# Altium schematic symbol library Loggerhead.SchLib: 42 symbols
Pins are listed as number, name and electrical type; pins without a type are passive.

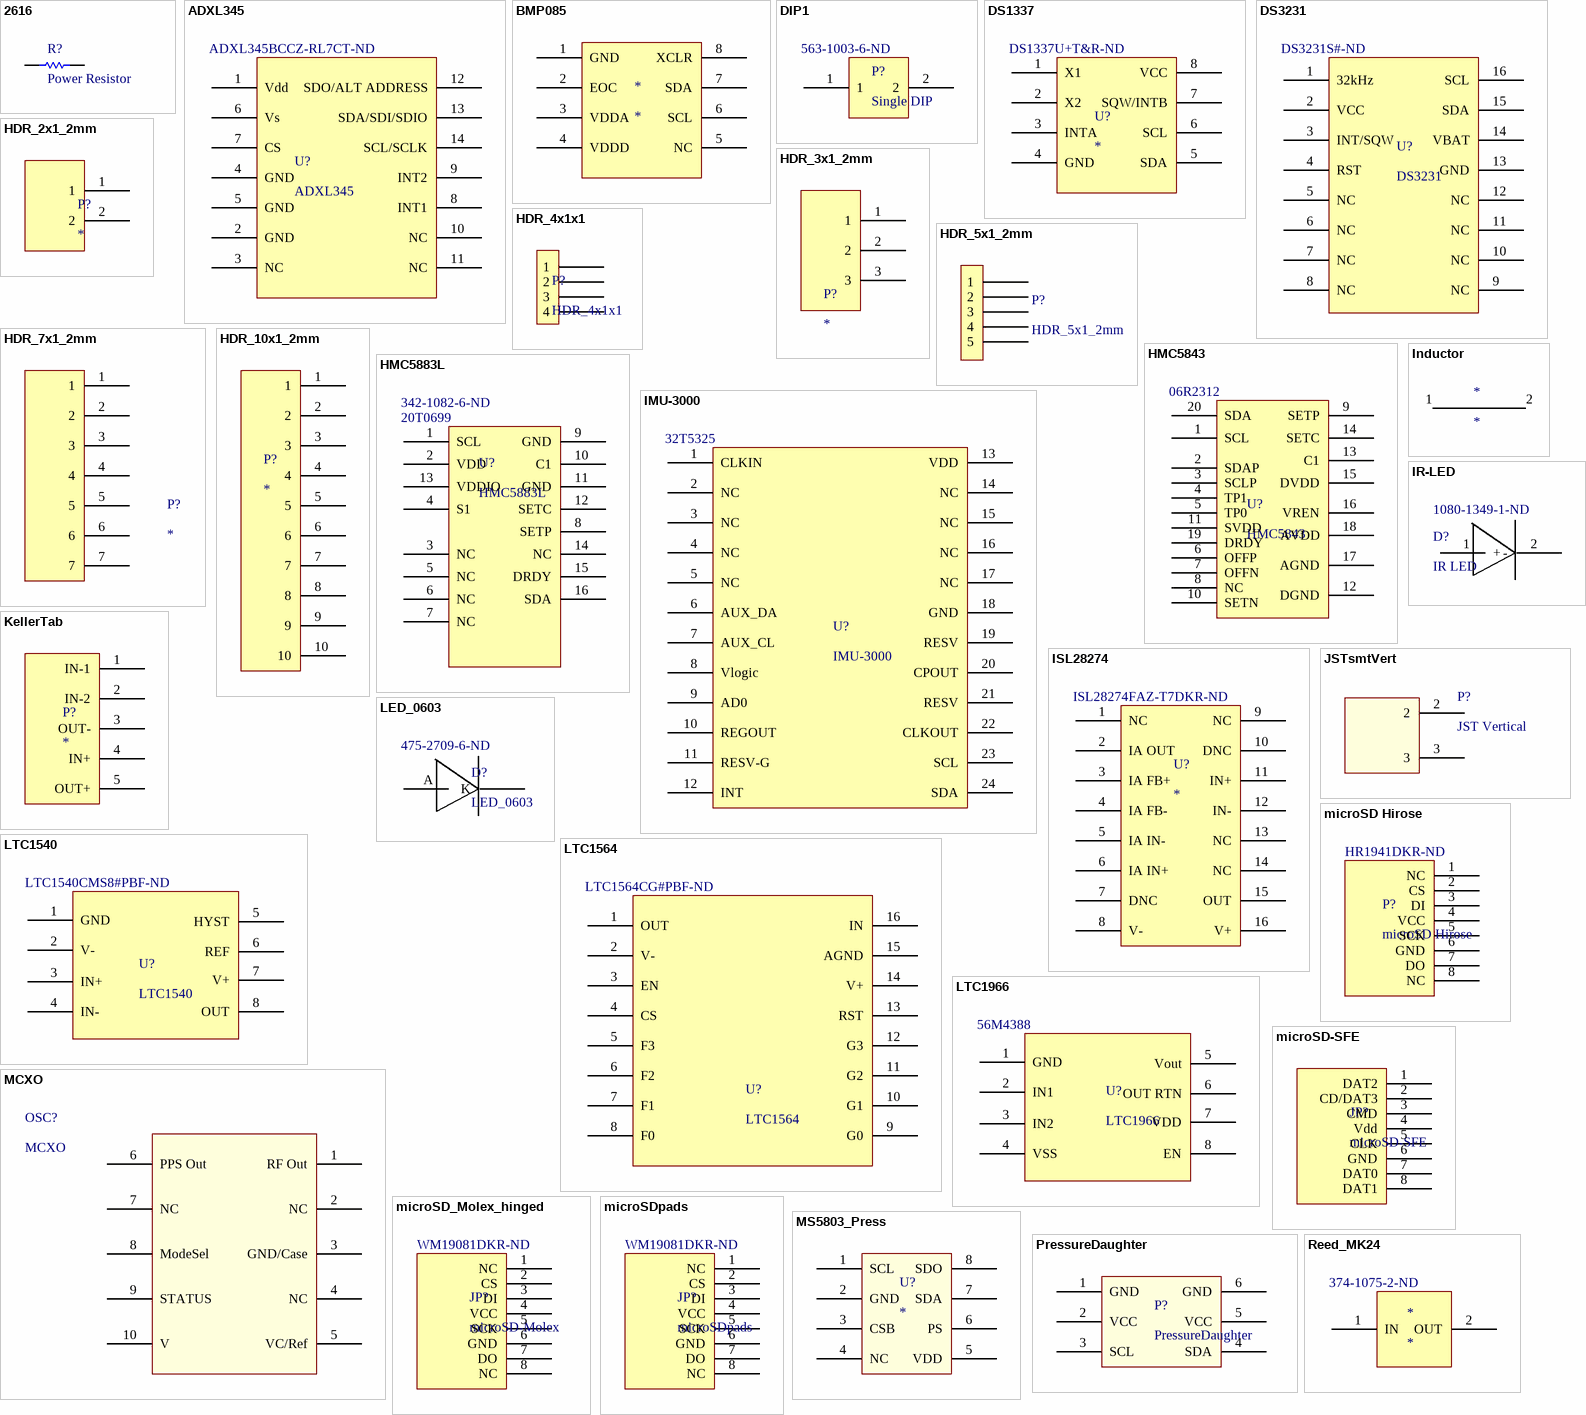
[diagram p0: symbols 2616 to Reed_MK24]

## 2616
designator R?, comment Power Resistor
footprint 2616
pins: 1, 2

## ADXL345
designator U?  Supplier Part Number 1: ADXL345BCCZ-RL7CT-ND
Supplier 1: Digi-Key
footprint ADXL345 (Digital Accelerometer)
pins: 1 Vdd (power), 2 GND, 3 NC, 4 GND, 5 GND, 6 Vs, 7 CS, 8 INT1, 9 INT2, 10 NC, 11 NC, 12 SDO/ALT ADDRESS, 13 SDA/SDI/SDIO, 14 SCL/SCLK

## BMP085
designator *
pins: 1 GND, 2 EOC, 3 VDDA, 4 VDDD, 5 NC, 6 SCL, 7 SDA, 8 XCLR (power)

## DIP1
designator P?, comment Single DIP  Supplier Part Number 1: 563-1003-6-ND
Supplier 1: Digi-Key
footprint DIP1
pins: 1, 2

## DS1337
designator U?  Supplier Part Number 1: DS1337U+T&R-ND
Supplier 1: Digi-Key
footprint uSOP8
pins: 1 X1, 2 X2, 3 INTA, 4 GND, 5 SDA, 6 SCL, 7 SQW/INTB, 8 VCC (power)

## DS3231
designator U?  Supplier Part Number 1: DS3231S#-ND
Supplier 1: Digi-Key
footprint NSO16_L (16-Pin Small Outline Integrated Circuit 1.27 mm Pitch, IPC High Density)
pins: 1 32kHz, 2 VCC (power), 3 INT/SQW, 4 RST, 5 NC, 6 NC, 7 NC, 8 NC, 9 NC, 10 NC, 11 NC, 12 NC, 13 GND, 14 VBAT (power), 15 SDA, 16 SCL

## HDR_2x1_2mm
designator P?
footprint HDR_2x1_2mm
pins: 1, 2

## HDR_3x1_2mm
designator P?
footprint HDR_3x1_2mm
pins: 1, 2, 3

## HDR_4x1x1
designator P?
footprint HDR4x1x1mm (Header with 1 mm centers)
pins: 1, 2, 3, 4

## HDR_5x1_2mm
designator P?
footprint Hdr_5x1_2mm
pins: 1, 2, 3, 4, 5

## HDR_7x1_2mm
designator P?
footprint HDR_7x1_2mm
pins: 1, 2, 3, 4, 5, 6, 7

## HDR_10x1_2mm
designator P?
footprint HDR_10x1_2mm
pins: 1, 2, 3, 4, 5, 6, 7, 8, 9, 10

## HMC5843
designator U?  Supplier Part Number 1: 06R2312
Supplier 1: Newark
footprint HMC5843 (Compass)
pins: 1 SCL, 2 SDAP, 3 SCLP, 4 TP1, 5 TP0, 6 OFFP, 7 OFFN, 8 NC, 9 SETP, 10 SETN, 11 SVDD, 12 DGND, 13 C1, 14 SETC, 15 DVDD, 16 VREN, 17 AGND, 18 AVDD (power), 19 DRDY, 20 SDA

## HMC5883L
designator U?  Supplier Part Number 1: 20T0699  Supplier Part Number 2: 342-1082-6-ND
Supplier 1: Newark; Supplier 2: Digi-Key
footprint HMC5883L (Compass 3D Honeywell)
pins: 1 SCL, 2 VDD (power), 3 NC, 4 S1, 5 NC, 6 NC, 7 NC, 8 SETP, 9 GND, 10 C1, 11 GND, 12 SETC, 13 VDDIO, 14 NC, 15 DRDY, 16 SDA

## IMU-3000
designator U?  Supplier Part Number 1: 32T5325
Supplier 1: Newark
footprint IMU-3000 (Invensense Gyro)
pins: 1 CLKIN, 2 NC, 3 NC, 4 NC, 5 NC, 6 AUX_DA, 7 AUX_CL, 8 Vlogic, 9 AD0, 10 REGOUT, 11 RESV-G, 12 INT, 13 VDD (power), 14 NC, 15 NC, 16 NC, 17 NC, 18 GND, 19 RESV, 20 CPOUT, 21 RESV, 22 CLKOUT, 23 SCL, 24 SDA

## Inductor
designator *
footprint Inductor
pins: 1, 2

## IR-LED
designator D?, comment IR LED  Supplier Part Number 1: 1080-1349-1-ND
Supplier 1: Digi-Key
footprint IR-LED
pins: 1 +, 2 - "Cathode (gnd)"

## ISL28274
designator U?  Supplier Part Number 1: ISL28274FAZ-T7DKR-ND
Supplier 1: Digi-Key
footprint QSOP16_Intersil
pins: 1 NC, 2 IA OUT, 3 IA FB+, 4 IA FB-, 5 IA IN-, 6 IA IN+, 7 DNC, 8 V-, 9 NC, 10 DNC, 11 IN+, 12 IN-, 13 NC, 14 NC, 15 OUT, 16 V+ (power)

## JSTsmtVert
designator P?, comment JST Vertical
footprint JST_SMT (JST surface mount power connector)
pins: 2, 3

## KellerTab
designator P?
footprint KellerTab1 (Pressure sensor)
pins: 1 IN-1, 2 IN-2, 3 OUT-, 4 IN+, 5 OUT+

## LED_0603
designator D?  Supplier Part Number 1: 475-2709-6-ND
Supplier 1: Digi-Key
footprint Diode0603
pins: A, K "Cathode (gnd)"

## LTC1540
designator U?  Supplier Part Number 1: LTC1540CMS8#PBF-ND
Supplier 1: Digi-Key
footprint MS8 (Shrink Small Outline; 8 Leads; Body Width 3 mm; Pitch 0.65 mm)
pins: 1 GND, 2 V-, 3 IN+, 4 IN-, 5 HYST, 6 REF, 7 V+ (power), 8 OUT

## LTC1564
designator U?  Supplier Part Number 1: LTC1564CG#PBF-ND
Supplier 1: Digi-Key
footprint SSOP16
pins: 1 OUT, 2 V-, 3 EN, 4 CS, 5 F3, 6 F2, 7 F1, 8 F0, 9 G0, 10 G1, 11 G2, 12 G3, 13 RST, 14 V+, 15 AGND, 16 IN

## LTC1966
designator U?  Supplier Part Number 1: 56M4388
Supplier 1: Newark
footprint MS8 (Shrink Small Outline; 8 Leads; Body Width 3 mm; Pitch 0.65 mm)
pins: 1 GND, 2 IN1, 3 IN2, 4 VSS, 5 Vout, 6 OUT RTN, 7 VDD (power), 8 EN

## MCXO
designator OSC?
MCXO oscillator
footprint MCXO
pins: 1 RF Out, 2 NC, 3 GND/Case, 4 NC, 5 VC/Ref, 6 PPS Out, 7 NC, 8 ModeSel, 9 STATUS, 10 V

## microSD Hirose
designator P?  Supplier Part Number 1: HR1941DKR-ND
Supplier 1: Digi-Key
footprint DM3D microSD (MICROSD_HIROSE Push-Pull)
pins: 1 NC, 2 CS, 3 DI, 4 VCC, 5 SCK, 6 GND, 7 DO, 8 NC

## microSD-SFE
designator JP?
footprint microSD Socket
pins: 1 DAT2, 2 CD/DAT3, 3 CMD, 4 Vdd, 5 CLK, 6 GND, 7 DAT0, 8 DAT1

## microSD_Molex_hinged
designator JP?, comment microSD-Molex  Supplier Part Number 1: WM19081DKR-ND
Supplier 1: Digi-Key
footprint microSD_Molex_hinged
pins: 1 NC, 2 CS, 3 DI, 4 VCC, 5 SCK, 6 GND, 7 DO, 8 NC

## microSDpads
designator JP?  Supplier Part Number 1: WM19081DKR-ND
Supplier 1: Digi-Key
footprint microSDtabs
pins: 1 NC, 2 CS, 3 DI, 4 VCC, 5 SCK, 6 GND, 7 DO, 8 NC

## MS5803_Press
designator U?
footprint MS5803_Press
pins: 1 SCL, 2 GND, 3 CSB, 4 NC, 5 VDD (power), 6 PS, 7 SDA, 8 SDO

## PressureDaughter
designator P?
footprint PressureDaughter
pins: 1 GND, 2 VCC, 3 SCL, 4 SDA, 5 VCC, 6 GND

## Reed_MK24
designator *  Supplier Part Number 1: 374-1075-2-ND
Supplier 1: Digi-Key
footprint Reed MK24-B-3 (Meder Reed Switch Surface Mount)
pins: 1 IN, 2 OUT

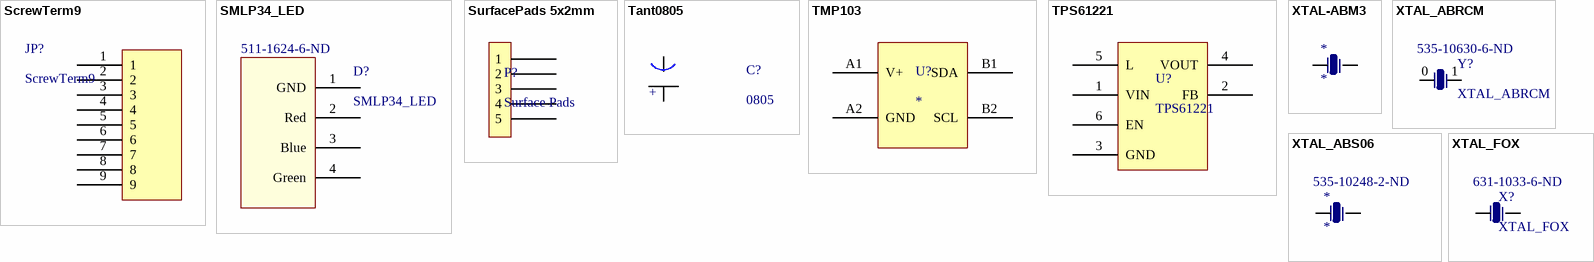
[diagram p1: symbols ScrewTerm9 to XTAL_FOX]

## ScrewTerm9
designator JP?
footprint ScrewTerm9
pins: 1, 2, 3, 4, 5, 6, 7, 8, 9

## SMLP34_LED
designator D?  Supplier Part Number 1: 511-1624-6-ND
Supplier 1: Digi-Key
footprint SMLP34_LED (RGB LED)
pins: 1 GND, 2 Red, 3 Blue, 4 Green

## SurfacePads 5x2mm
designator P?, comment Surface Pads
footprint Surface Pads 5 x 2mm
pins: 1, 2, 3, 4, 5

## Tant0805
designator C?, comment 0805
Value: *
footprint Tant0805
pins: 1 GND, 2 +

## TMP103
designator U?
footprint BGA4_TMP103 (BGA, 4-Leads, Body 0.8x0.8mm,  Pitch 0.40mm)
pins: A1 V+ (power), A2 GND, B1 SDA, B2 SCL

## TPS61221
designator U?
footprint SC70 (TSOP, 6-Leads, Body 2.2x1.4mm (max), Pitch 0.65mm, IPC Medium Density)
pins: 1 VIN (power), 2 FB, 3 GND, 4 VOUT (power), 5 L, 6 EN

## XTAL-ABM3
designator *
footprint XTAL-ABM3
pins: 1, 2

## XTAL_ABRCM
designator Y?  Supplier Part Number 1: 535-10630-6-ND
Abracom XTAL 8 MHz; Supplier 1: Digi-Key
footprint XTAL_ABRACOM
pins: 0, 1

## XTAL_ABS06
designator *  Supplier Part Number 1: 535-10248-2-ND
Supplier 1: Digi-Key
footprint XTAL-ABS06
pins: 1, 2

## XTAL_FOX
designator X?  Supplier Part Number 1: 631-1033-6-ND
Supplier 1: Digi-Key
footprint XTAL_FOX
pins: 1, 2